# EAGLE library part 50224-016 (library con-aces-50224-series)
ACES CONNECTORS 50224 SERIES Aces Connectors 50224 <https://www.acesconn.com/tw/series/50224-xxxxx-xxx/3165>
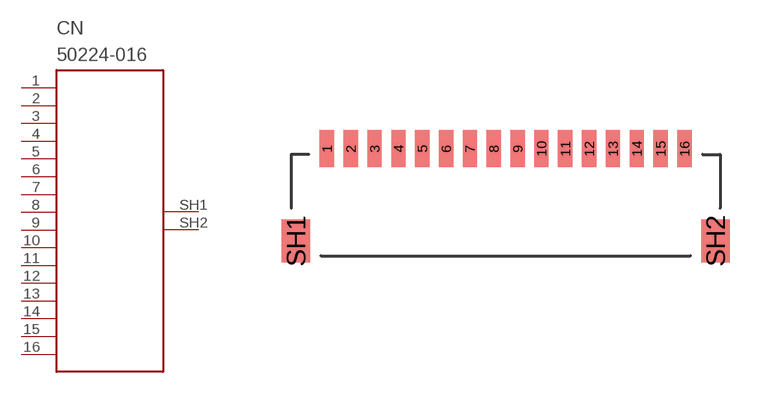
[diagram p12: symbol with the pads of 50224-016; footprint 50224-016]

Designator prefix CN

## 50224-016  [50224-016]
1  1
2  2
3  3
4  4
5  5
6  6
7  7
8  8
9  9
10  10
11  11
12  12
13  13
14  14
15  15
16  16
SH1  SH1
SH2  SH2

## Footprint 50224-016 (pad centres in mm)
smd 0.6 x 1.55: 1 -7.5,0; 2 -6.5,0; 3 -5.5,0; 4 -4.5,0; 5 -3.5,0; 6 -2.5,0; 7 -1.5,0; 8 -0.5,0; 9 0.5,0; 10 1.5,0; 11 2.5,0; 12 3.5,0; 13 4.5,0; 14 5.5,0; 15 6.5,0; 16 7.5,0
smd 1.2 x 1.8: SH1 -8.8,-3.875; SH2 8.8,-3.875